# Altium schematic symbol library Components.SchLib: 20 symbols
Pins are listed as number, name and electrical type; pins without a type are passive.

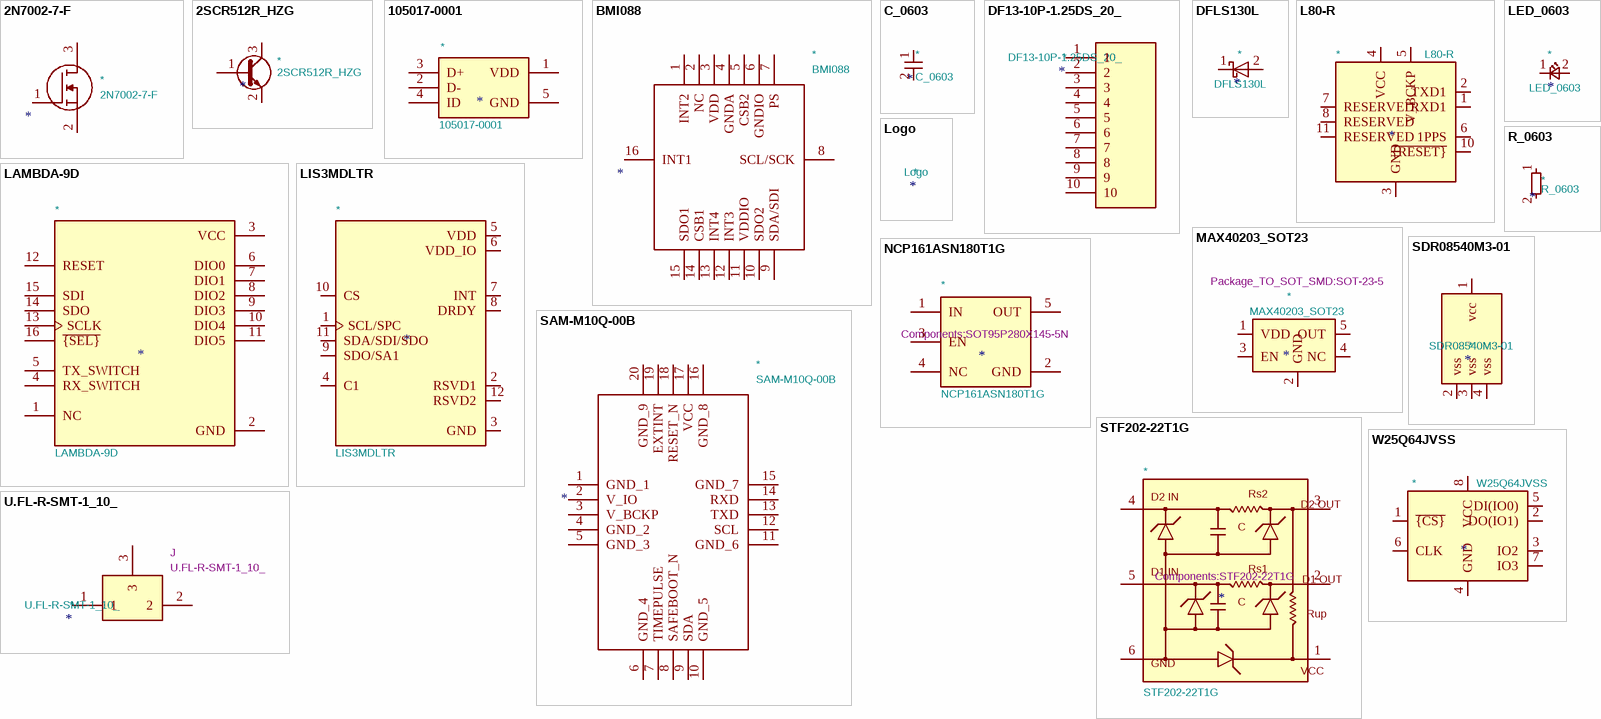
[diagram p0: symbols 2N7002-7-F to W25Q64JVSS]

## 2N7002-7-F
designator *  value 2N7002-7-F
MOSFET N-Channel 60V 0.21A SOT23 Diodes Inc 2N7002-7-F N-channel MOSFET Transistor, 0.115 A, 60 V, 3-Pin SOT-23; Manufacturer_Name: Diodes Inc.; Footprint: SOT96P240X120-3N; Supplier: https://datasheet.datasheetarchive.com/originals/distributors/SFDatasheet-0/sf-0003625.pdf; Description_: MOSFET N-Channel 60V 0.21A SOT23 Diodes Inc 2N7002-7-F N-channel MOSFET Transistor, 0.115 A, 60 V, 3-Pin SOT-23; Height: 1.2; Manufacturer_Part_Number: 2N7002-7-F; Mouser Part Number: 621-2N7002-F; Mouser Price/Stock: https://www.mouser.co.uk/ProductDetail/Diodes-Incorporated/2N7002-7-F?qs=jMXWnm70%252BC%252BAX%252BMLzUkTZg%3D%3D; Arrow Part Number: 2N7002-7-F; Arrow Price/Stock: https://www.arrow.com/en/products/2n7002-7-f/diodes-incorporated?region=nac; ki_description: MOSFET N-Channel 60V 0.21A SOT23 Diodes Inc 2N7002-7-F N-channel MOSFET Transistor, 0.115 A, 60 V, 3-Pin SOT-23
footprint SOT96P240X120-3N
pins: 1, 2, 3

## 2SCR512R_HZG
designator *  value 2SCR512R_HZG
ki_keywords: NPN Transistor; ki_fp_filters: TO?39*; Footprint: Components:2SCR512RHZG; Supplier: https://fscdn.rohm.com/en/products/databook/datasheet/discrete/transistor/bipolar/2scr512rhzgtl-e.pdf
footprint 2SCR512RHZG
pins: 1 B, 2 E, 3 C

## 105017-0001
designator *  value 105017-0001
ki_description: Molex micro usb; Footprint: MOLEX_105017-0001; Supplier: https://www.mouser.co.uk/datasheet/2/276/1/1050170001_IO_CONNECTORS-230168.pdf
footprint MOLEX_105017-0001
pins: 1 VDD, 2 D-, 3 D+, 4 ID, 5 GND

## BMI088
designator *  value BMI088
Inertial Measurement Unit Digital Output 2.5V/3.3V Automotive; Manufacturer_Name: BOSCH; Footprint: Components:BMI088; Supplier: https://datasheet.datasheetarchive.com/originals/distributors/Datasheets_SAMA/994c3bf88e91a9e9fead6a819d348e4d.pdf; Description_: Inertial Measurement Unit Digital Output 2.5V/3.3V Automotive; Height: 1.45; Manufacturer_Part_Number: BMI088; Mouser Part Number: 262-BMI088; Mouser Price/Stock: https://www.mouser.co.uk/ProductDetail/Bosch-Sensortec/BMI088?qs=f9yNj16SXrIMFspTV6RB6Q%3D%3D; Arrow Part Number: BMI088; Arrow Price/Stock: https://www.arrow.com/en/products/bmi088/bosch?region=europe; ki_description: Inertial Measurement Unit Digital Output 2.5V/3.3V Automotive
footprint BMI088
pins: 1 INT2, 2 NC, 3 VDD, 4 GNDA, 5 CSB2, 6 GNDIO, 7 PS, 8 SCL/SCK, 9 SDA/SDI, 10 SDO2, 11 VDDIO, 12 INT3, 13 INT4, 14 CSB1, 15 SDO1, 16 INT1

## C_0603
designator *  value C_0603
ki_keywords: capacitor cap; ki_description: Unpolarized capacitor, small symbol; ki_fp_filters: C_*; Footprint: Components:C_0603_1608Metric; Supplier: ~
footprint C_0603_1608Metric
pins: 1, 2

## DF13-10P-1.25DS_20_
designator *  value DF13-10P-1.25DS_20_
Manufacturer_Name: Hirose; Manufacturer_Part_Number: DF13-10P-1.25DS(20); ki_description: Headers & Wire Housings 1.25MM RA PCB HEADER 10P THRU-HOLE TIN; Footprint: Components:DF1310P125DS20; Datasheet_1: https://www.hirose.com/en/product/document?clcode=CL0536-0159-9-20&productname=DF13-10P-1.25DS(20)&series=DF13&documenttype=2DDrawing&lang=en&documentid=0000995634; Height: 3.75; Mouser Part Number: 798-DF13-10P1.25DS20; Mouser Price/Stock: https://www.mouser.co.uk/ProductDetail/Hirose-Connector/DF13-10P-125DS20?qs=Ux3WWAnHpjDkYvkYGSCt5g%3D%3D; Arrow Part Number: DF13-10P-1.25DS(20); Arrow Price/Stock: https://www.arrow.com/en/products/df13-10p-1.25ds-20/hirose-electric?region=nac
footprint DF1310P125DS20
pins: 1, 2, 3, 4, 5, 6, 7, 8, 9, 10

## DFLS130L
designator *  value DFLS130L
ki_keywords: diode Schottky; ki_description: Schottky diode; ki_fp_filters: TO-???* *_Diode_* *SingleDiode* D_*; Supplier: ~
pins: 1 K, 2 A

## L80-R
designator *  value L80-R
ki_keywords: quectel GPS GNSS module; ki_description: Quectel GPS Module; ki_fp_filters: Quectel*L80*R*; Footprint: Components:Quectel_L80-R; Supplier: https://www.quectel.com/UploadImage/Downlad/Quectel_L80-R_Hardware_Design_V1.2.pdf
footprint Quectel_L80-R
pins: 1 RXD1, 2 TXD1, 3 GND, 4 VCC, 5 V_BCKP, 6 1PPS, 7 RESERVED, 8 RESERVED, 9 NC hidden, 10 ~{{RESET}}, 11 RESERVED, 12 GND hidden

## LAMBDA-9D
designator *  value LAMBDA-9D
MANUFACTURER: RF Solutions; SNAPEDA_PACKAGE_ID: 63698; Footprint: Components:XCVR_LAMBDA-9D; MAXIMUM_PACKAGE_HEIGHT: 5.81 mm; STANDARD: Manufacturer Recommendations; PARTREV: N/A; SNAPEDA_PN: LAMBDA-9D
footprint XCVR_LAMBDA-9D
pins: 1 NC, 2 GND, 3 VCC, 4 RX_SWITCH, 5 TX_SWITCH, 6 DIO0, 7 DIO1, 8 DIO2, 9 DIO3, 10 DIO4, 11 DIO5, 12 RESET, 13 SCLK, 14 SDO, 15 SDI, 16 ~{{SEL}}

## LED_0603
designator *  value LED_0603
ki_keywords: LED diode light-emitting-diode; ki_description: Light emitting diode, small symbol; ki_fp_filters: LED* LED_SMD:* LED_THT:*; Footprint: Components:C_0603_1608Metric; Supplier: ~
footprint C_0603_1608Metric
pins: 1 K, 2 A

## LIS3MDLTR
designator *  value LIS3MDLTR
MF: STMicroelectronics; DESCRIPTION: LIS3MDL Series 3 Axis ±2/±8/±12/±16 g 3.6V High Performance Magnetometer LGA-12; Footprint: Components:XDCR_LIS3MDLTR; PRICE: None; STANDARD: Manufacturer Recommendation; PARTREV: 6; MP: LIS3MDLTR; PACKAGE: VFLGA-12 STMicroelectronics; AVAILABILITY: Unavailable; MAXIMUM_PACKAGE_HEIGHT: 1mm
footprint XDCR_LIS3MDLTR
pins: 1 SCL/SPC, 2 RSVD1, 3 GND, 4 C1, 5 VDD, 6 VDD_IO, 7 INT, 8 DRDY, 9 SDO/SA1, 10 CS, 11 SDA/SDI/SDO, 12 RSVD2

## Logo
designator *  value Logo
Footprint: Components:ICSS_Logo
footprint ICSS_Logo

## MAX40203_SOT23
designator *  value MAX40203_SOT23  Footprint: Package_TO_SOT_SMD:SOT-23-5
footprint SOT-23-5
pins: 1 VDD, 2 GND, 3 EN, 4 NC, 5 OUT

## NCP161ASN180T1G
designator *  value NCP161ASN180T1G  Footprint: Components:SOT95P280X145-5N
MANUFACTURER: Onsemi; PARTREV: Rev. 18; SNAPEDA_PN: NCP161ASN180T1G; STANDARD: IPC-7351B; MAXIMUM_PACKAGE_HEIGHT: 1.45 mm
footprint SOT95P280X145-5N
pins: 1 IN, 2 GND, 3 EN, 4 NC, 5 OUT

## R_0603
designator *  value R_0603
ki_keywords: R resistor; ki_description: Resistor, small symbol; ki_fp_filters: R_*; Footprint: Components:R_0603_1608Metric; Supplier: ~
footprint R_0603_1608Metric
pins: 1, 2

## SAM-M10Q-00B
designator *  value SAM-M10Q-00B
GNSS / GPS Modules M10 precision GNSS patch antenna module; Manufacturer_Name: U-Blox; Footprint: SAMM10Q00B; Supplier: https://content.u-blox.com/sites/default/files/documents/SAM-M10Q_DataSheet_UBX-22013293.pdf; Description_: GNSS / GPS Modules M10 precision GNSS patch antenna module; Height: 6.8; Manufacturer_Part_Number: SAM-M10Q-00B; Mouser Part Number: 377-SAM-M10Q-00B; Mouser Price/Stock: https://www.mouser.co.uk/ProductDetail/u-blox/SAM-M10Q-00B?qs=vvQtp7zwQdOaA6LplTUKjg%3D%3D; ki_description: GNSS / GPS Modules M10 precision GNSS patch antenna module
footprint SAMM10Q00B
pins: 1 GND_1, 2 V_IO, 3 V_BCKP, 4 GND_2, 5 GND_3, 6 GND_4, 7 TIMEPULSE, 8 SAFEBOOT_N, 9 SDA, 10 GND_5, 11 GND_6, 12 SCL, 13 TXD, 14 RXD, 15 GND_7, 16 GND_8, 17 VCC, 18 RESET_N, 19 EXTINT, 20 GND_9

## SDR08540M3-01
designator *  value SDR08540M3-01
pins: 1 vcc, 2 vss, 3 vss, 4 vss

## STF202-22T1G
designator *  value STF202-22T1G  Footprint: Components:STF202-22T1G
footprint STF202-22T1G
pins: 1, 2, 3, 4, 5, 6
text: D2 IN; Rs2; D2 OUT; C; D1 IN; Rs1; D1 OUT; Rup; GND; VCC

## U.FL-R-SMT-1_10_
designator *  value U.FL-R-SMT-1_10_  Reference_1: J
Manufacturer_Name: Hirose; Manufacturer_Part_Number: U.FL-R-SMT-1(10); ki_description: UFL SMT PCB receptable,DC-6GHz Hirose Straight 50 Surface Mount UFL Connector, Receptacle, Solder Termination Coaxial; Value_1: U.FL-R-SMT-1_10_; Footprint_1: U.FL-R-SMT-1(10); Datasheet_1: https://www.hirose.com/product/document?clcode=CL0331-0472-2-10&productname=U.FL-R-SMT-1(10)&series=U.FL&documenttype=2DDrawing&lang=en&documentid=0000940684; Mouser Part Number: 798-U.FL-R-SMT-110; Mouser Price/Stock: https://www.mouser.co.uk/ProductDetail/Hirose-Connector/U.FL-R-SMT-110?qs=kL1ClTr6oBoOdtqlGQpQrQ%3D%3D; Arrow Part Number: U.FL-R-SMT-1(10); Arrow Price/Stock: https://www.arrow.com/en/products/u.fl-r-smt-1-10/hirose-electric
pins: 1, 2, 3

## W25Q64JVSS
designator *  value W25Q64JVSS
ki_keywords: flash memory SPI; ki_description: 64Mb Serial Flash Memory, Standard/Dual/Quad SPI, SOIC-8; ki_fp_filters: SOIC*5.23x5.23mm*P1.27mm*; Footprint: Package_SO:SOIC-8_5.23x5.23mm_P1.27mm; Supplier: https://www.winbond.com/resource-files/W25Q64JV%20RevK%2003102021%20Plus.pdf#toolbar=0
footprint SOIC-8_5.23x5.23mm_P1.27mm
pins: 1 ~{{CS}}, 2 DO(IO1), 3 IO2, 4 GND, 5 DI(IO0), 6 CLK, 7 IO3, 8 VCC